# Altium schematic symbol library ESP_SENSOR_STATION_REV1.SchLib: 32 symbols
Pins are listed as number, name and electrical type; pins without a type are passive.

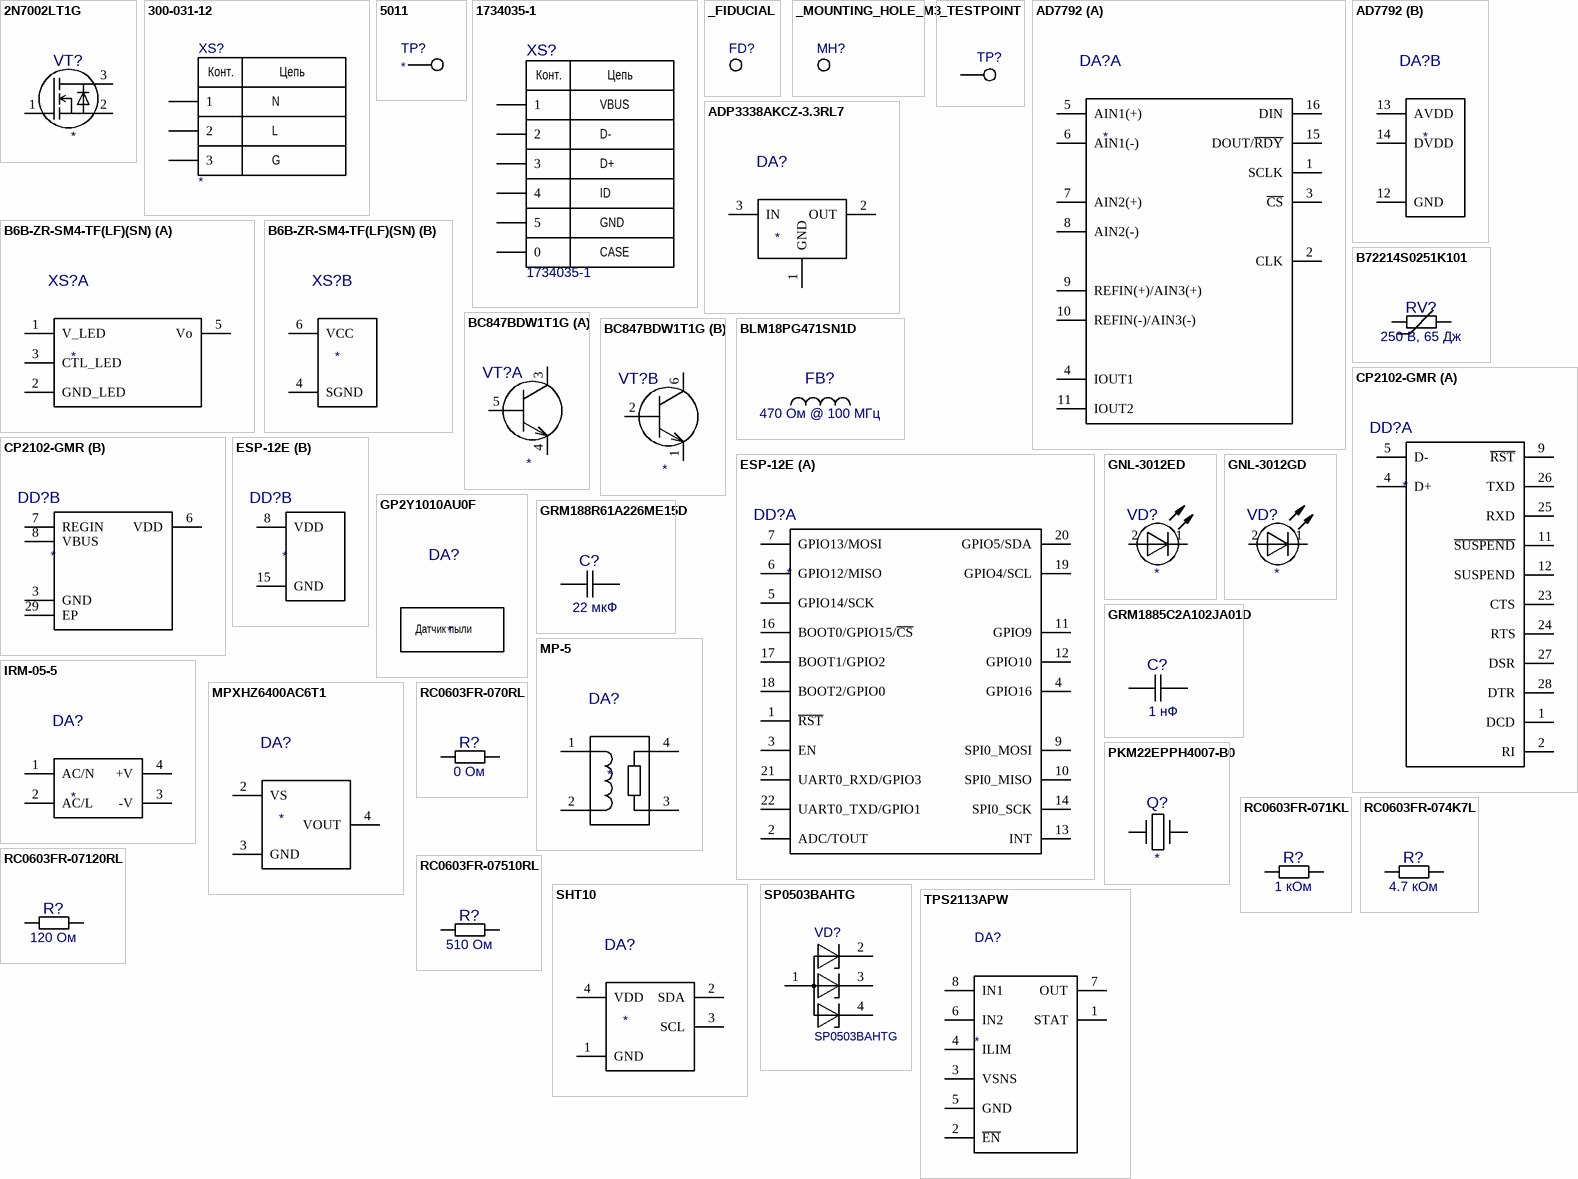
[diagram p0: symbols 2N7002LT1G to TPS2113APW]

## 2N7002LT1G
designator VT?
footprint SOT95P237X111-3N (SOT23, 3-Leads, Body 2,92x2,37mm, Pitch 0,95mm, IPC Medium Density)
pins: 1 G, 2 S, 3 D

## 300-031-12
designator XS?
footprint 300-031-12
pins: 1, 2, 3
text: Конт.; Цепь; N; L; G

## 5011
designator TP?
footprint 5011
pins: 1

## 1734035-1
designator XS?
footprint 1734035-1
pins: 0, 1, 2, 3, 4, 5
text: Конт.; Цепь; VBUS; D-; D+; ID; GND; CASE

## _FIDUCIAL
designator FD?  (value not drawn)  (no BOM)
footprint _FIDUCIAL
pins: 0

## _MOUNTING_HOLE_M3
designator MH?  (value not drawn)  (no BOM)
footprint _MOUNTING_HOLE_M3

## _TESTPOINT
designator TP?  (value not drawn)  (no BOM)
footprint _TESTPOINT
pins: 1

## AD7792
designator DA?
footprint TSOP65P640X120-16N (TSOP, 16-Leads, Body 5,00x4,40mm, Pitch 0,65mm, IPC Medium Density)
part A pins: 1 SCLK, 2 CLK, 3 ~{CS}, 4 IOUT1, 5 AIN1(+), 6 AIN1(-), 7 AIN2(+), 8 AIN2(-), 9 REFIN(+)/AIN3(+), 10 REFIN(-)/AIN3(-), 11 IOUT2, 15 DOUT/~{RDY}, 16 DIN
part B pins: 12 GND, 13 AVDD, 14 DVDD

## ADP3338AKCZ-3.3RL7
designator DA?
footprint SOT230P700X180-4N (SOT223, 4-Leads, Body 6,50x7,00mm (avg), Pitch 2,30mm, IPC Medium Density)
pins: 1 GND, 2 OUT, 3 IN

## B6B-ZR-SM4-TF(LF)(SN)
designator XS?
footprint B6B-ZR-SM4-TF(LF)(SN)
part A pins: 1 V_LED, 2 GND_LED, 3 CTL_LED, 5 Vo
part B pins: 4 SGND, 6 VCC

## B72214S0251K101
designator RV?, comment 250 В, 65 Дж
footprint B72214S0251K101
pins: 1, 2

## BC847BDW1T1G
designator VT?
footprint SOT65P210X110-6N (SOT23, 6-Leads, Body 2,00x2,10mm, Pitch 0,65mm, IPC Medium Density)
part A pins: 3 C1, 4 E1, 5 B1
part B pins: 1 E2, 2 B2, 6 C2

## BLM18PG471SN1D
designator FB?, comment 470 Ом @ 100 МГц
footprint INDC1608X08N (Chip Inductor, 2-Leads, Body 1,60x0,80mm, IPC Medium Density)
pins: 1, 2

## CP2102-GMR
designator DD?
footprint QFN50P500X500X100_HS-29N (QFN, 28-Leads, Body 5,00x5,00mm, Pitch 0,50mm, Thermal Pad 3,13x3,13mm, IPC Medium Density)
part A pins: 1 DCD, 2 RI, 4 D+, 5 D-, 9 ~{RST}, 11 ~{SUSPEND}, 12 SUSPEND, 23 CTS, 24 RTS, 25 RXD, 26 TXD, 27 DSR, 28 DTR
part B pins: 3 GND, 6 VDD, 7 REGIN, 8 VBUS, 29 EP

## ESP-12E
designator DD?
footprint ESP-12E
part A pins: 1 ~{RST}, 2 ADC/TOUT, 3 EN, 4 GPIO16, 5 GPIO14/SCK, 6 GPIO12/MISO, 7 GPIO13/MOSI, 9 SPI0_MOSI, 10 SPI0_MISO, 11 GPIO9, 12 GPIO10, 13 INT, 14 SPI0_SCK, 16 BOOT0/GPIO15/~{CS}, 17 BOOT1/GPIO2, 18 BOOT2/GPIO0, 19 GPIO4/SCL, 20 GPIO5/SDA, 21 UART0_RXD/GPIO3, 22 UART0_TXD/GPIO1
part B pins: 8 VDD, 15 GND

## GNL-3012ED
designator VD?
footprint GNL-3012ED
pins: 1 C, 2 A

## GNL-3012GD
designator VD?
footprint GNL-3012GD
pins: 1 C, 2 A

## GP2Y1010AU0F
designator DA?
footprint GP2Y1010AU0F
text: Датчик пыли

## GRM188R61A226ME15D
designator C?, comment 22 мкФ
footprint CAPC1608X08N (Chip Capacitor, 2-Leads, Body 1,60x0,80mm, IPC Medium Density)
pins: 1, 2

## GRM1885C2A102JA01D
designator C?, comment 1 нФ
footprint CAPC1608X08N (Chip Capacitor, 2-Leads, Body 1,60x0,80mm, IPC Medium Density)
pins: 1, 2

## IRM-05-5
designator DA?
footprint IRM-05
pins: 1 AC/N, 2 AC/L, 3 -V, 4 +V

## MP-5
designator DA?
footprint MP-5
pins: 1, 2, 3, 4

## MPXHZ6400AC6T1
designator DA?
footprint MPXHZ6400AC6T1
pins: 2 VS, 3 GND, 4 VOUT

## PKM22EPPH4007-B0
designator Q?
footprint PKM22EPPH4007-B0
pins: 1, 2

## RC0603FR-070RL
designator R?, comment 0 Ом
footprint RESC1608X06N (Chip Resistor, 2-Leads, Body 1,60x0,80mm, IPC Medium Density)
pins: 1, 2

## RC0603FR-071KL
designator R?, comment 1 кОм
footprint RESC1608X06N (Chip Resistor, 2-Leads, Body 1,60x0,80mm, IPC Medium Density)
pins: 1, 2

## RC0603FR-074K7L
designator R?, comment 4.7 кОм
footprint RESC1608X06N (Chip Resistor, 2-Leads, Body 1,60x0,80mm, IPC Medium Density)
pins: 1, 2

## RC0603FR-07120RL
designator R?, comment 120 Ом
footprint RESC1608X06N (Chip Resistor, 2-Leads, Body 1,60x0,80mm, IPC Medium Density)
pins: 1, 2

## RC0603FR-07510RL
designator R?, comment 510 Ом
footprint RESC1608X06N (Chip Resistor, 2-Leads, Body 1,60x0,80mm, IPC Medium Density)
pins: 1, 2

## SHT10
designator DA?
footprint SHT1x
pins: 1 GND, 2 SDA, 3 SCL, 4 VDD

## SP0503BAHTG
designator VD?
footprint SOT190P237X122-4N (SOT143, 4-Leads, Body 2,92x2,37mm, Pitch 1,90mm, IPC Medium Density)
pins: 1, 2, 3, 4

## TPS2113APW
designator DA?
footprint TSOP65P640X120-8N (TSOP, 8-Leads, Body 3,00x4,40mm, Pitch 0,65mm, IPC Medium Density)
pins: 1 STAT, 2 ~{EN}, 3 VSNS, 4 ILIM, 5 GND, 6 IN2, 7 OUT, 8 IN1